# Altium schematic symbol library SN74LVC2G240DCTR.SchLib: 2 symbols
Pins are listed as number, name and electrical type; pins without a type are passive.

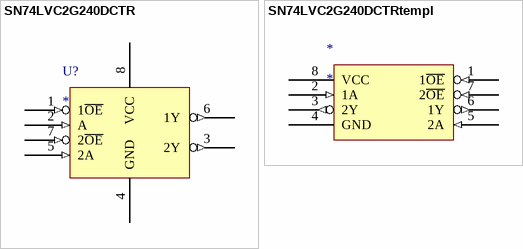
[diagram p0: symbols SN74LVC2G240DCTR to SN74LVC2G240DCTRtempl]

## SN74LVC2G240DCTR
designator U?
Dual Buffer/Driver with 3-state Outputs
pins: 1 1~{OE} (in), 2 A (in), 3 2Y (out), 4 GND (power), 5 2A (in), 6 1Y (out), 7 2~{OE} (in), 8 VCC (power)

## SN74LVC2G240DCTRtempl
designator *
pins: 1 1~{OE} (in), 2 1A (in), 3 2Y (out), 4 GND (power), 5 2A (in), 6 1Y (out), 7 2~{OE} (in), 8 VCC (power)